# Altium schematic symbol library Mylib.SchLib: 27 symbols
Pins are listed as number, name and electrical type; pins without a type are passive.

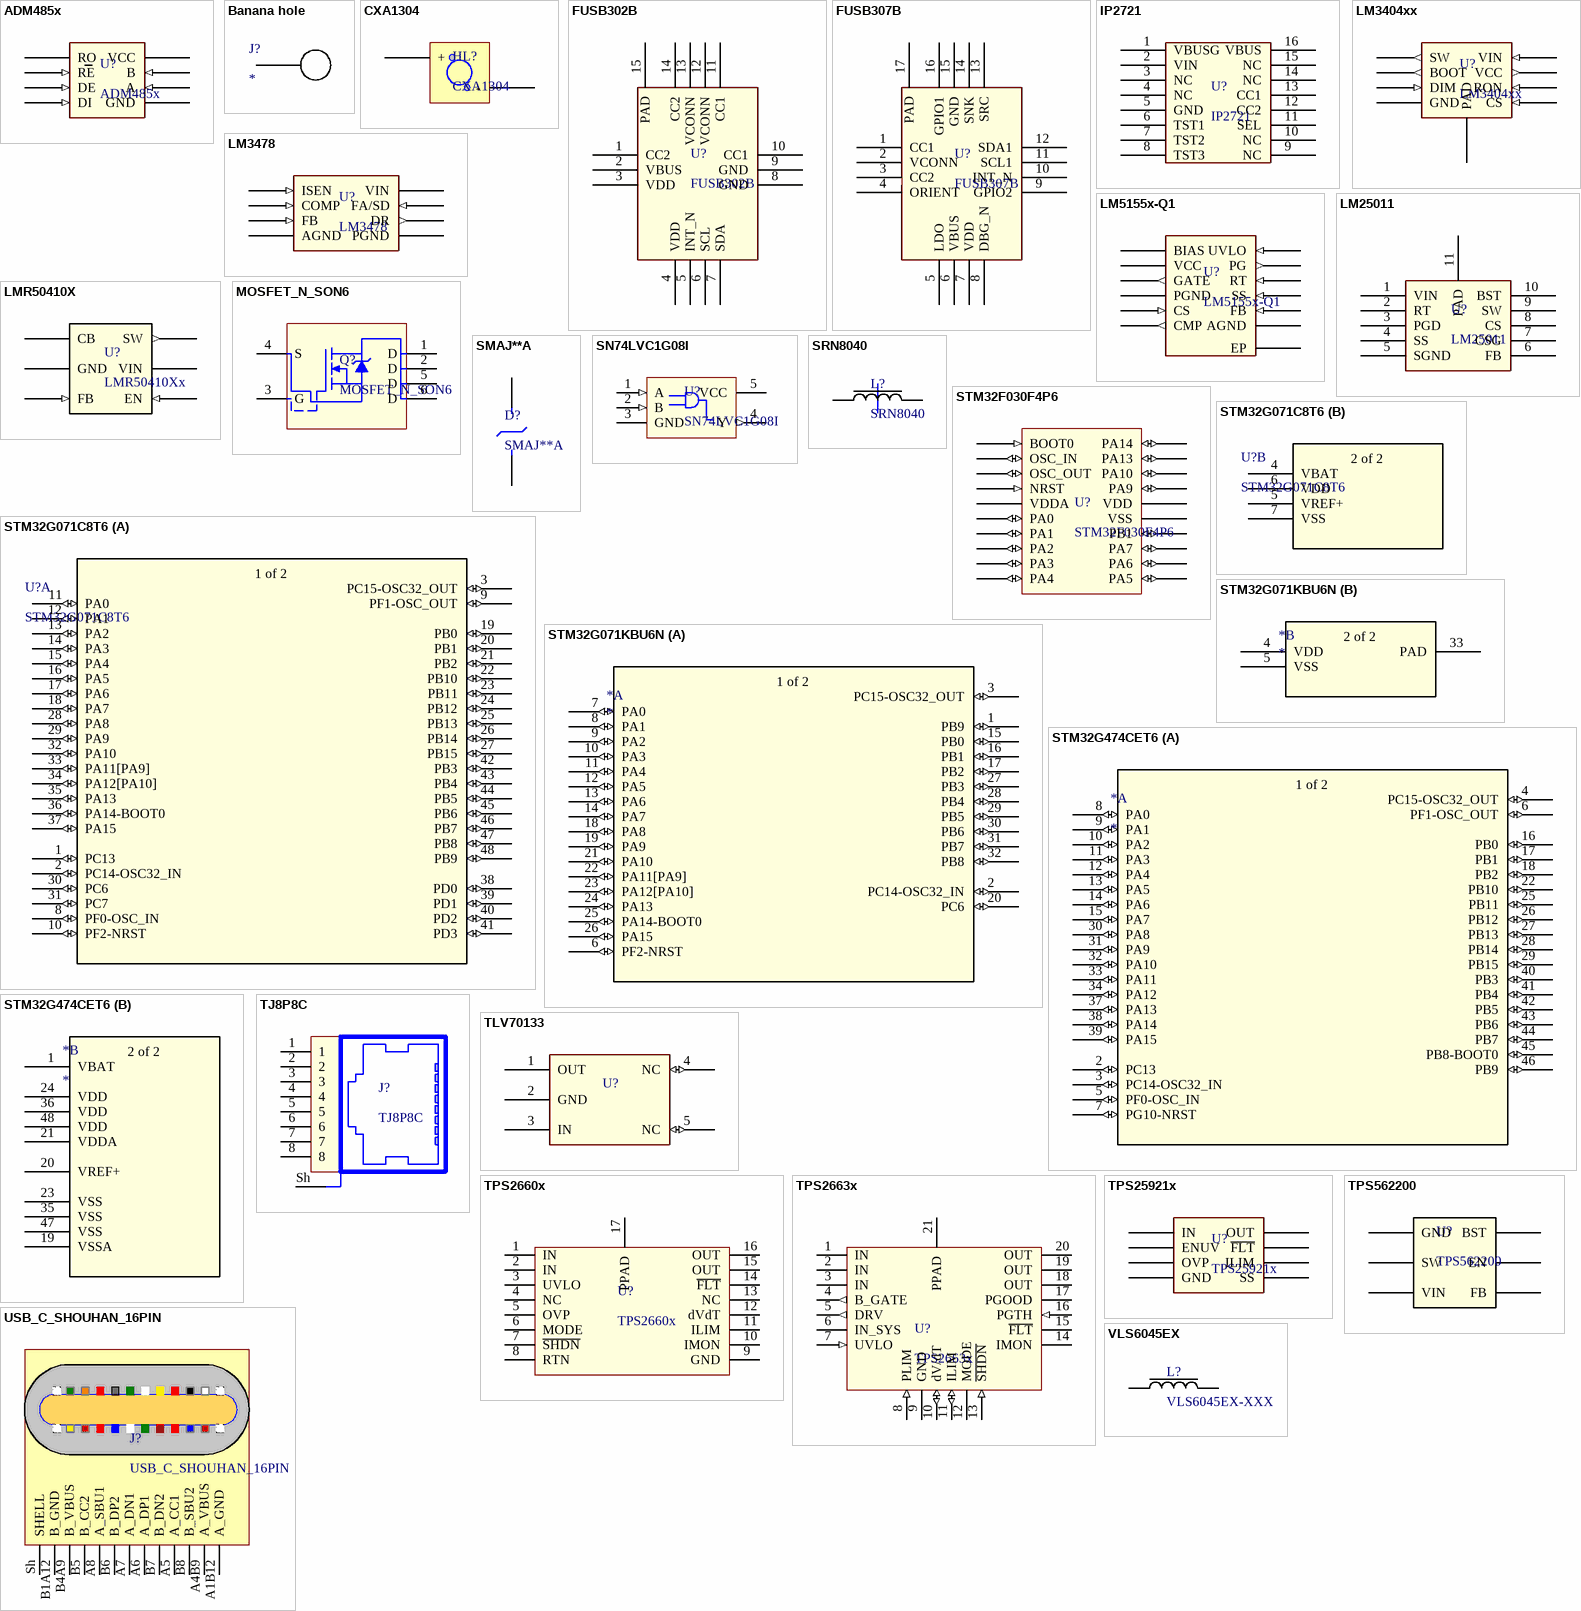
[diagram p0: symbols ADM485x to VLS6045EX]

## ADM485x
designator U?
RS-485 interface
footprint SOIC8(3.9) (SOIC, 8-Leads, Body 5,0x4,0mm (max), Pitch 1,27mm, IPC Medium Density)
pins: 1 RO (oc), 2 RE (in), 3 DE (in), 4 DI (in), 5 GND, 6 A (in), 7 B (in), 8 VCC (power)

## Banana hole
designator J?
Hole for banana conn 2 mm
footprint Banana hole (Hole for Banana conn 2mm)
pins: 1 0

## CXA1304
designator HL?
China powerfull led
footprint CXA1512
pins: 1 + (power), 2 - (power)

## FUSB302B
designator U?
Ptogrammable USB Type-C Controller w/PD
footprint 14 lead MLP
pins: 1 CC2, 2 VBUS, 3 VDD, 4 VDD, 5 INT_N, 6 SCL, 7 SDA, 8 GND, 9 GND, 10 CC1, 11 CC1, 12 VCONN, 13 VCONN, 14 CC2, 15 PAD

## FUSB307B
designator U?
USB Type-C Port Controller / with USB-PD
footprint QFN16
pins: 1 CC1, 2 VCONN, 3 CC2, 4 ORIENT, 5 LDO, 6 VBUS, 7 VDD, 8 DBG_N, 9 GPIO2, 10 INT_N, 11 SCL1, 12 SDA1, 13 SRC, 14 SNK, 15 GND, 16 GPIO1, 17 PAD

## IP2721
designator U?
TYPEC/PD2.0/PD3.0 Physical Layer IC for USB TYPEC input Interfaces
footprint TSSOP16 (TSSOP, 16-Leads, Body 5,00x4,40mm, Pitch 0,65mm, IPC Medium Density)
pins: 1 VBUSG, 2 VIN, 3 NC, 4 NC, 5 GND, 6 TST1, 7 TST2, 8 TST3, 9 NC, 10 NC, 11 SEL, 12 CC2, 13 CC1, 14 NC, 15 NC, 16 VBUS

## LM3404xx
designator U?
1-A Constant Current Buck Regulator for Driving High Power LEDs
footprint SO8_TermPad
pins: 1 SW (out), 2 BOOT (out), 3 DIM (in), 4 GND (power), 5 CS (in), 6 RON (in), 7 VCC (out), 8 VIN (in), 9 PAD (power)

## LM3478
designator U?
High-Efficiency Low-Side N-Channel Controller for Switching Regulator
footprint SOIC8(3.9) (SOIC, 8-Leads, Body 5,0x4,0mm (max), Pitch 1,27mm, IPC Medium Density)
pins: 1 ISEN (in), 2 COMP (in), 3 FB (in), 4 AGND (power), 5 PGND (power), 6 DR (out), 7 FA/SD (in), 8 VIN (power)

## LM5155x-Q1
designator U?
2.2-MHz Wide Input Nonsynchronous Boost, SEPIC, Flyback Controller
footprint WSON12
pins: 1 BIAS (power), 2 VCC (power), 3 GATE (out), 4 PGND (power), 5 CS (in), 6 CMP (out), 7 AGND (power), 8 FB (in), 9 SS (in), 10 RT (in), 11 PG (out), 12 UVLO (in), 13 EP (power)

## LM25011
designator U?
Constant On-Time Switching / Regulator With Adjustable Current Limit
footprint HVSSOP-10
pins: 1 VIN, 2 RT, 3 PGD, 4 SS, 5 SGND, 6 FB, 7 CSG, 8 CS, 9 SW, 10 BST, 11 PAD

## LMR50410X
designator U?, comment LMR50410Xx
SIMPLE SWITCHER® 4-V to 36-V, 1-A Buck Converter in SOT-23-6 Package
footprint SOT23-6
pins: 1 CB (power), 2 GND, 3 FB (in), 4 EN (in), 5 VIN (power), 6 SW (out)

## MOSFET_N_SON6
designator Q?
footprint SON6
pins: 1 D, 2 D, 3 G, 4 S, 5 D, 6 D

## SMAJ**A
designator D?
Transient Voltage Suppressor Diode Series
footprint DO-214AC(SMA)
pins: 1 Electrode1, 2 Electrode2

## SN74LVC1G08I
designator U?
Single 2-input positive-AND gate
footprint SC70-5
footprint SOT23-5 (SOT23, 5-Leads, Body 3,0x2,8mm (max), Pitch 0,95mm, IPC Medium Density)
pins: 1 A (in), 2 B (in), 3 GND (power), 4 Y (out), 5 VCC (power)

## SRN8040
designator L?
Power inductor
footprint SRN8040
pins: 1, 2

## STM32F030F4P6
designator U?
STM32 MCU
footprint TSSOP20 (TSSOP, 20-Leads, Body 6,50x4,40mm, Pitch 0,65mm, IPC Medium Density)
pins: 1 BOOT0 (in), 2 OSC_IN (io), 3 OSC_OUT (io), 4 NRST (in), 5 VDDA (power), 6 PA0 (io), 7 PA1 (io), 8 PA2 (io), 9 PA3 (io), 10 PA4 (io), 11 PA5 (io), 12 PA6 (io), 13 PA7 (io), 14 PB1 (io), 15 VSS (power), 16 VDD (power), 17 PA9 (io), 18 PA10 (io), 19 PA13 (io), 20 PA14 (io)

## STM32G071C8T6
designator U?
ARM-based 32-bit MCU; SourceLibrary: Updates_to_database_2020-10-19; Built_By: EMA_UL_Team; Vendor: STMicroelectronics; Copyright: Copyright (C) 2018 Accelerated Designs. All rights reserved; Manufacturer_Part_Number: STM32G071C8T6; RefDes: RefDes; Type: DEV
footprint LQFP-48
part A pins: 1 PC13 (io), 2 PC14-OSC32_IN (io), 3 PC15-OSC32_OUT (io), 8 PF0-OSC_IN (io), 9 PF1-OSC_OUT (io), 10 PF2-NRST (io), 11 PA0 (io), 12 PA1 (io), 13 PA2 (io), 14 PA3 (io), 15 PA4 (io), 16 PA5 (io), 17 PA6 (io), 18 PA7 (io), 19 PB0 (io), 20 PB1 (io), 21 PB2 (io), 22 PB10 (io), 23 PB11 (io), 24 PB12 (io), 25 PB13 (io), 26 PB14 (io), 27 PB15 (io), 28 PA8 (io), 29 PA9 (io), 30 PC6 (io), 31 PC7 (io), 32 PA10 (io), 33 PA11[PA9] (io), 34 PA12[PA10] (io), 35 PA13 (io), 36 PA14-BOOT0 (io), 37 PA15 (io), 38 PD0 (io), 39 PD1 (io), 40 PD2 (io), 41 PD3 (io), 42 PB3 (io), 43 PB4 (io), 44 PB5 (io), 45 PB6 (io), 46 PB7 (io), 47 PB8 (io), 48 PB9 (io)
part B pins: 4 VBAT (power), 5 VREF+ (power), 6 VDD (power), 7 VSS (power)
part A text: 1 of 2
part B text: 2 of 2

## STM32G071KBU6N
designator *
footprint UFQFPN-32
part A pins: 1 PB9 (io), 2 PC14-OSC32_IN (io), 3 PC15-OSC32_OUT (io), 6 PF2-NRST (io), 7 PA0 (io), 8 PA1 (io), 9 PA2 (io), 10 PA3 (io), 11 PA4 (io), 12 PA5 (io), 13 PA6 (io), 14 PA7 (io), 15 PB0 (io), 16 PB1 (io), 17 PB2 (io), 18 PA8 (io), 19 PA9 (io), 20 PC6 (io), 21 PA10 (io), 22 PA11[PA9] (io), 23 PA12[PA10] (io), 24 PA13 (io), 25 PA14-BOOT0 (io), 26 PA15 (io), 27 PB3 (io), 28 PB4 (io), 29 PB5 (io), 30 PB6 (io), 31 PB7 (io), 32 PB8 (io)
part B pins: 4 VDD (power), 5 VSS (power), 33 PAD
part A text: 1 of 2
part B text: 2 of 2

## STM32G474CET6
designator *
footprint LQFP48-7x7mm
part A pins: 2 PC13 (io), 3 PC14-OSC32_IN (io), 4 PC15-OSC32_OUT (io), 5 PF0-OSC_IN (io), 6 PF1-OSC_OUT (io), 7 PG10-NRST (io), 8 PA0 (io), 9 PA1 (io), 10 PA2 (io), 11 PA3 (io), 12 PA4 (io), 13 PA5 (io), 14 PA6 (io), 15 PA7 (io), 16 PB0 (io), 17 PB1 (io), 18 PB2 (io), 22 PB10 (io), 25 PB11 (io), 26 PB12 (io), 27 PB13 (io), 28 PB14 (io), 29 PB15 (io), 30 PA8 (io), 31 PA9 (io), 32 PA10 (io), 33 PA11 (io), 34 PA12 (io), 37 PA13 (io), 38 PA14 (io), 39 PA15 (io), 40 PB3 (io), 41 PB4 (io), 42 PB5 (io), 43 PB6 (io), 44 PB7 (io), 45 PB8-BOOT0 (io), 46 PB9 (io)
part B pins: 1 VBAT (power), 19 VSSA (power), 20 VREF+ (power), 21 VDDA (power), 23 VSS (power), 24 VDD (power), 35 VSS (power), 36 VDD (power), 47 VSS (power), 48 VDD (power)
part A text: 1 of 2
part B text: 2 of 2

## TJ8P8C
designator J?
RJ-45 connector
footprint TJ8P8C
pins: 1, 2, 3, 4, 5, 6, 7, 8, Sh

## TLV70133
designator U?
LDO 3.3V
footprint SOT23-5 (SOT23, 5-Leads, Body 3,0x2,8mm (max), Pitch 0,95mm, IPC Medium Density)
pins: 1 OUT, 2 GND, 3 IN, 4 NC (io), 5 NC (io)

## TPS2660x
designator U?
60-V, 2-A Industrial eFuse With Integrated Reverse Input Polarity Protection
footprint HTSSOP-16
pins: 1 IN, 2 IN, 3 UVLO, 4 NC, 5 OVP, 6 MODE, 7 ~{SHDN}, 8 RTN, 9 GND, 10 IMON, 11 ILIM, 12 dVdT, 13 NC, 14 ~{FLT}, 15 OUT, 16 OUT, 17 PPAD

## TPS2663x
designator U?
60-V, 6-A Power Limiting, Surge Protection Industrial eFuse
footprint HTSSOP-20 PowerPad
pins: 1 IN (power), 2 IN (power), 3 IN (power), 4 B_GATE (out), 5 DRV (out), 6 IN_SYS (power), 7 UVLO (in), 8 PLIM (in), 9 GND, 10 dV/dT (io), 11 ILIM (io), 12 MODE (oc), 13 ~{SHDN} (in), 14 IMON (oc), 15 ~{FLT} (oc), 16 PGTH (in), 17 PGOOD (oc), 18 OUT (power), 19 OUT (power), 20 OUT (power), 21 PPAD

## TPS25921x
designator U?
4.5V - 18V eFuse with Precise Current Limit and Over Voltage Protection /
footprint SOIC8(3.9) (SOIC, 8-Leads, Body 5,0x4,0mm (max), Pitch 1,27mm, IPC Medium Density)
pins: 1 GND, 2 SS, 3 ENUV, 5 OUT, 5 IN, 6 ~{FLT}, 7 ILIM, 8 OVP

## TPS562200
designator U?
Buck converter 2A up to 17V
footprint SOT23-6
pins: 1 GND (power), 2 SW (power), 3 VIN (power), 4 FB, 5 EN, 6 BST

## USB_C_SHOUHAN_16PIN
designator J?
footprint SHOU HAN TYPE-C 16PIN 2MD(073)
pins: A1B12 A_GND, A4B9 A_VBUS, A5 A_CC1, A6 A_DP1, A7 A_DN1, A8 A_SBU1, B1A12 B_GND, B4A9 B_VBUS, B5 B_CC2, B6 B_DP2, B7 B_DN2, B8 B_SBU2, Sh SHELL

## VLS6045EX
designator L?, comment VLS6045EX-XXX
power inductor
footprint VLS6045EX (Inductor)
pins: 1, 2